# EAGLE library part MAXONDRIVER380200 (library MaxonDriver)
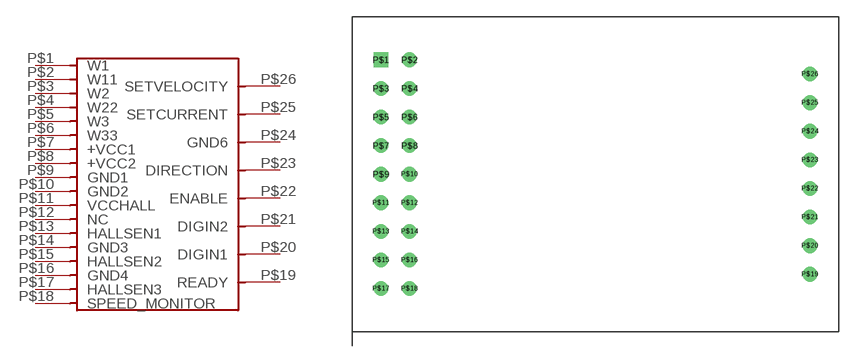
[diagram p0: symbol with the pads of MAXONDRIVER380200; footprint MAXONDRIVER380200]

Designator prefix -

## MAXONDRIVER380200  [MAXONDRIVER380200]
P$1  W1
P$2  W11
P$3  W2
P$4  W22
P$5  W3
P$6  W33
P$7  +VCC1
P$8  +VCC2
P$9  GND1
P$10  GND2
P$11  VCCHALL
P$12  NC
P$13  HALLSEN1  in
P$14  GND3
P$15  HALLSEN2  in
P$16  GND4
P$17  HALLSEN3  in
P$18  SPEED_MONITOR  out
P$19  READY
P$20  DIGIN1
P$21  DIGIN2
P$22  ENABLE
P$23  DIRECTION
P$24  GND6
P$25  SETCURRENT
P$26  SETVELOCITY

## Footprint MAXONDRIVER380200 (pad centres in mm)
drill 0.8 square: P$1 2.54,24.13
drill 0.8: P$2 5.08,24.13; P$3 2.54,21.59; P$4 5.08,21.59; P$5 2.54,19.05; P$6 5.08,19.05; P$7 2.54,16.51; P$8 5.08,16.51; P$9 2.54,13.97; P$10 5.08,13.97; P$11 2.54,11.43; P$12 5.08,11.43; P$13 2.54,8.89; P$14 5.08,8.89; P$15 2.54,6.35; P$16 5.08,6.35; P$17 2.54,3.81; P$18 5.08,3.81; P$19 40.64,5.08; P$20 40.64,7.62; P$21 40.64,10.16; P$22 40.64,12.7; P$23 40.64,15.24; P$24 40.64,17.78; P$25 40.64,20.32; P$26 40.64,22.86